# EAGLE library part 71600-006LF (library Kirbi_ControlBoard)
71600-006LF Amphenol 2x3 1.25mm Datasheet <https://cdn.amphenol-icc.com/media/wysiwyg/files/drawing/75869.pdf>
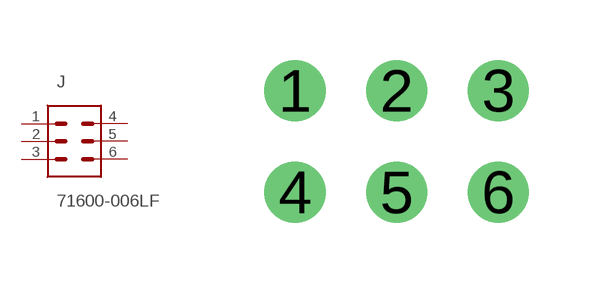
[diagram p2: symbol with the pads of AMPHENOL_2X3_2.54MM; footprint AMPHENOL_2X3_2.54MM]

Designator prefix J

## 71600-006LF (DKPN: 609-2841-ND)  [AMPHENOL_2X3_2.54MM]
1  6  pas
2  4  pas
3  2  pas
4  5  pas
5  3  pas
6  1  pas

## Footprint AMPHENOL_2X3_2.54MM (pad centres in mm)
Datasheet <https://cdn.amphenol-icc.com/media/wysiwyg/files/drawing/71600.pdf?__cf_chl_jschl_tk__=c077a2b0d405632c5cc75a59452b70f1e7b891a8-1600383503-0-AdsOCIGWubV6F82KEZAXb8ntYBsU1Kbc1NU6DoePEsAHI3diJrolGE1Zp7Hdy_ZJqxX4TvSrsAMIWT5Xwhbu4pDVgGF-IdlBz677ToNQoh0pGVLj6hgfcn2XkZo4yWTSy5zUIMR6DZbp_su-6dVvMAK6KJXyizSfVBSoSfqemmhHmU_0B2jpnLIWShvUuI6zH5llQPME4Wzw0hnOZV0-HjR_4Uo9v4sl-DMeFzD6LK2uvFJlA02YJ_xR0ST7XuUhxsO_DJFIeC365uVIGgwiQp_yVaiY6NGPlDhRFd93gSFiMcqS5bhFsEWvZHdEvcsK4FWdQtCRtZObsT0PKC5WcVXt1VEUofx3rVxelcjB6KrvggtJ2PNbFKsfgzbu59lJfA>
drill 1.02: 1 -2.54,1.27; 2 0,1.27; 3 2.54,1.27; 4 -2.54,-1.27; 5 0,-1.27; 6 2.54,-1.27